# Altium footprint library USB_TE_Connectivity_2172034-1.PcbLib: 1 footprints
Each footprint in its own frame and in the unit in brackets; x right, y up, seen from the top. Pads: shape width x height; smd on the part's side, far side on the other; paste and mask are expansions set on the pad; w line width, h text height; cw(c..) or ccw(c..) is an arc to the next point about the centre after c.
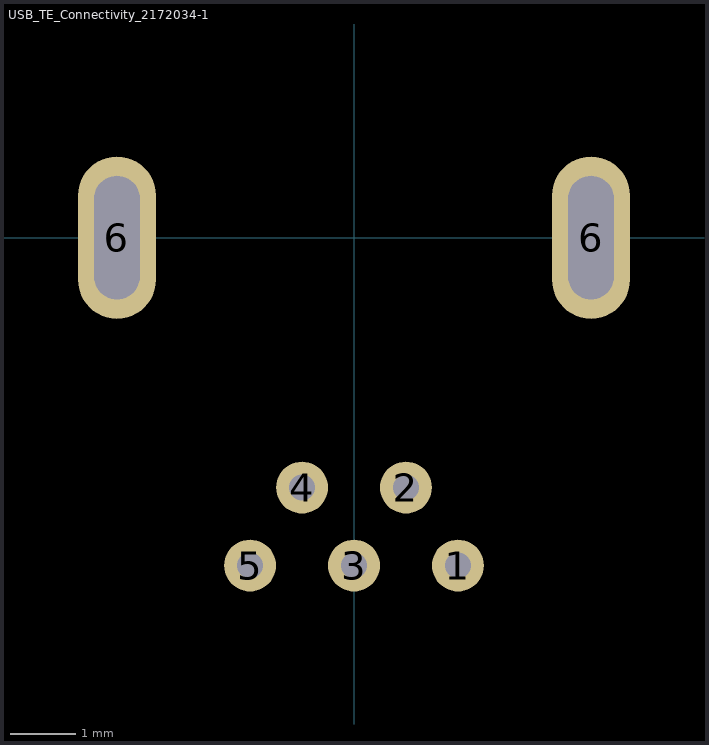
[diagram p0: the footprint, top view; thin cyan lines are the x and y axes]

## USB_TE_Connectivity_2172034-1 [mm]
pads (7):
  round 0.8 hole 0.4: 1(1.6,-5.05) 2(0.8,-3.85) 3(0,-5.05) 4(-0.8,-3.85) 5(-1.6,-5.05)
  oval 1.2x2.5 hole 0.7 slot 1.9 at 90 deg: 6(-3.65,0) 6(3.65,0)
3D body "2172034-1--3DModel-STEP-56544.STEP": height 4.14, standoff -2.8, extent -4.35,-5.85 4.35,3.75